# Altium footprint library EE209_PCBLibrary.PcbLib: 16 footprints
Each footprint in its own frame and in the unit in brackets; x right, y up, seen from the top. Pads: shape width x height; smd on the part's side, far side on the other; paste and mask are expansions set on the pad; w line width, h text height; cw(c..) or ccw(c..) is an arc to the next point about the centre after c.
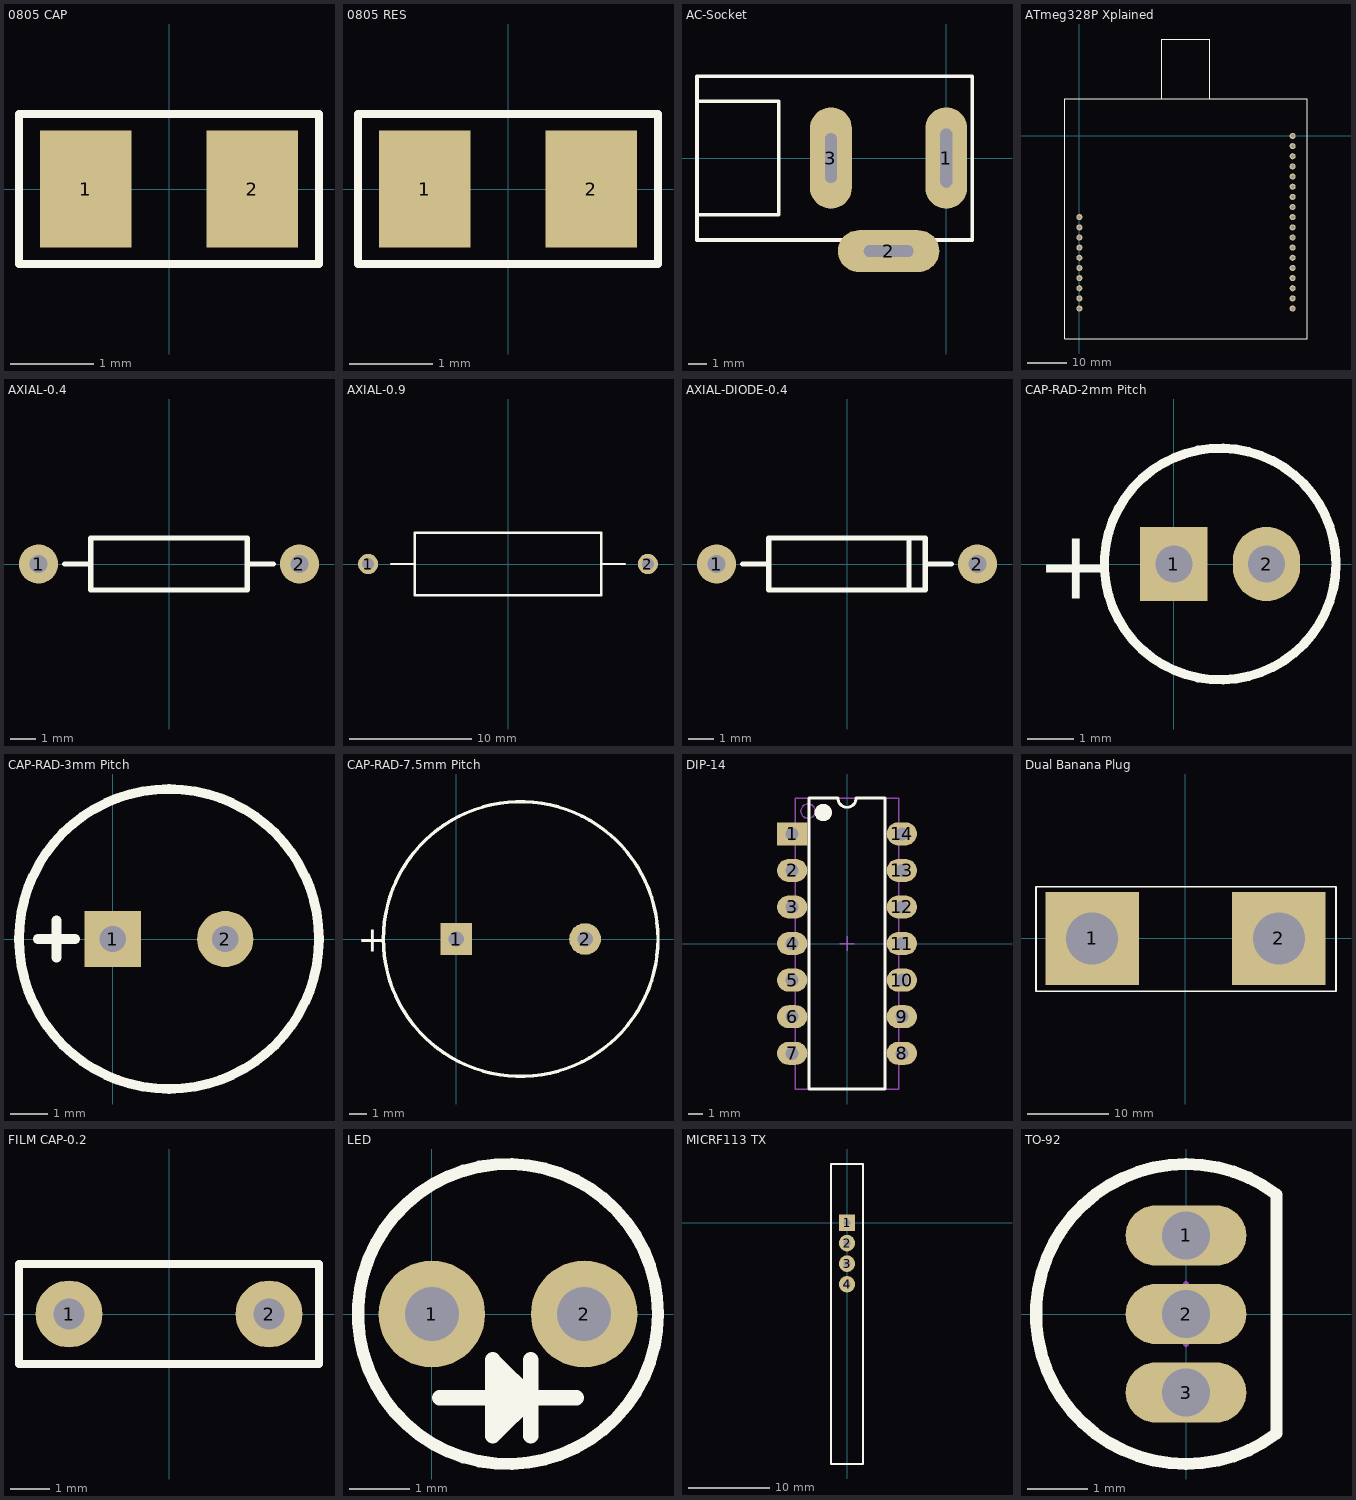
[diagram p0: the footprints below, top view; thin cyan lines are the x and y axes]

## 0805 CAP [mm] "http://www.digikey.co.nz/Web%20Export/Supplier%20Content/Vishay_8026/PDF/VishayBeyschlag_SolderPad.pdf?redirected=1 with dimension G modified by +0.25mm"
pads (2):
  rect 1.1x1.4 smd: 1(-1,0) 2(1,0)
Top Overlay:
  lines w0.1: -1.8,-0.9 -1.8,0.9 1.8,0.9 1.8,-0.9 -1.8,-0.9
3D body: height 0.6, standoff 0, extent -1.016,-0.635 1.016,0.635
3D body: height 0.61, standoff 0, extent -1.041,-0.66 -0.762,0.66
3D body: height 0.61, standoff 0, extent 0.762,-0.66 1.041,0.66

## 0805 RES [mm] "http://www.digikey.co.nz/Web%20Export/Supplier%20Content/Vishay_8026/PDF/VishayBeyschlag_SolderPad.pdf?redirected=1 with dimension G modified by +0.25mm"
pads (2):
  rect 1.1x1.4 smd: 1(-1,0) 2(1,0)
Top Overlay:
  lines w0.1: -1.8,-0.9 -1.8,0.9 1.8,0.9 1.8,-0.9 -1.8,-0.9
3D body: height 0.6, standoff 0, extent -1.016,-0.635 1.016,0.635
3D body: height 0.61, standoff 0, extent -1.041,-0.66 -0.762,0.66
3D body: height 0.61, standoff 0, extent 0.762,-0.66 1.041,0.66

## AC-Socket [mm]
pads (3):
  oval 2.25x5.45 hole 0.635 slot 3.175 at 90 deg: 1(0,0)
  oval 5.45x2.25 hole 0.635 slot 2.667 at 0 deg: 2(-3.1,-5)
  oval 2.25x5.45 hole 0.635 slot 2.667 at 90 deg: 3(-6.2,0)
Top Overlay:
  lines w0.2: -13.4,-3.05 -9,-3.05 -9,3.05 -13.4,3.05 ; -13.4,-4.4 -13.4,4.4 1.4,4.4 1.4,-4.4 -13.4,-4.4
  lines w0.5: -4.35,-4.25 -4.35,-5.25 -1.85,-5.25 -1.85,-4.25
Mechanical 1:
  lines w1: -6.2,-1.5 -6.2,1.7 ; -4.7,-5 -1.6,-5 ; 0,-1.6 0,1.6
3D body: height 10, standoff 0, extent -13.4,-4.4 1.4,4.4

## ATmeg328P Xplained [mil]
pads (28):
  round 60 hole 35: 9(0,-800) 10(0,-900) 11(0,-1000) 12(0,-1100) 13(0,-1200) 14(0,-1300) 15(0,-1400) 16(0,-1500) 17(0,-1600) 18(0,-1700) 19(2100,-1700) 20(2100,-1600) 21(2100,-1500) 22(2100,-1400) 23(2100,-1300) 24(2100,-1200) 25(2100,-1100) 26(2100,-1000) 27(2100,-900) 28(2100,-800) 29(2100,-700) 30(2100,-600) 31(2100,-500) 32(2100,-400) 33(2100,-300) 34(2100,-200) 35(2100,-100) 36(2100,0)
Top Overlay:
  lines w10: 810,365 810,955 1285,955 1285,367.26 ; -145,-2000 -145,365 2245,365 2245,-2000 -145,-2000
3D body: height 236.22, standoff 216.54, extent -145,-2000 2245,955

## AXIAL-0.4 [mil]
pads (2):
  round 60 hole 27.56: 1(-200,0) 2(200,0)
Top Overlay:
  lines w7.87: -160,0 -120,0 ; 120,0 160,0 ; -120,-40 -120,40 120,40 120,-40 -120,-40
3D body: height 80.68, standoff 1, extent -120,-39.92 120,39.92

## AXIAL-0.9 [mm]
pads (2):
  round 1.65 hole 1: 1(-11.43,0) 2(11.43,0)
Top Overlay:
  lines w0.2: -9.525,0 -7.62,0 ; 7.62,0 9.525,0 ; -7.62,-2.54 -7.62,2.54 7.62,2.54 7.62,-2.54 -7.62,-2.54
3D body: height 5.06, standoff 0, extent -7.535,-2.535 7.705,2.535

## AXIAL-DIODE-0.4 [mil]
pads (2):
  round 60 hole 27.56: 1(-200,0) 2(200,0)
Top Overlay:
  lines w7.87: -160,0 -120,0 ; 120,0 160,0 ; -120,-40 -120,40 120,40 120,-40 -120,-40
  lines w8: 95,-40 95,40
3D body: height 80.68, standoff 1, extent -120,-39.84 120,40
3D body: height 82.01, standoff -0.34, extent 47.24,-41.26 86.61,41.26

## CAP-RAD-2mm Pitch [mm] "Cap 5 X 6.8"
pads (2):
  rect 1.45x1.6 hole 0.8: 1(0,0)
  oval 1.45x1.6 hole 0.8: 2(2,0)
Top Overlay:
  circle w0.2: c1,0 r2.5
  text "+" at -2.975,-0.75 h1.5
3D body: height 6, standoff 0, extent -1.48,-2.495 3.5,2.495

## CAP-RAD-3mm Pitch [mm]
pads (2):
  rect 1.5x1.5 hole 0.7: 1(0,0)
  round 1.5 hole 0.7: 2(3,0)
Top Overlay:
  circle w0.254: c1.5,0 r4
  lines w0.254: -2,0 -1,0 ; -1.5,-0.5 -1.5,0.5
3D body: height 10, standoff 0, extent -2.468,-3.992 5.5,3.992

## CAP-RAD-7.5mm Pitch [mm]
pads (2):
  rect 1.85x1.85 hole 0.9: 1(0,0)
  round 1.85 hole 0.9: 2(7.5,0)
Top Overlay:
  circle w0.2: c3.75,0 r8
  text "+" at -5.725,-0.75 h1.5
3D body: height 10, standoff 0, extent -4.268,-7.968 11.668,8

## DIP-14 [mm] "DIP; 14 Leads; Row Spacing 7.62 mm; Pitch 2.54 mm"
height 5.08
pads (14):
  rect 2.1x1.6 hole 0.9: 1(-3.81,7.62)
  oval 2.1x1.6 hole 0.9: 2(-3.81,5.08) 3(-3.81,2.54) 4(-3.81,0) 5(-3.81,-2.54) 6(-3.81,-5.08) 7(-3.81,-7.62) 8(3.81,-7.62) 9(3.81,-5.08) 10(3.81,-2.54) 11(3.81,0) 12(3.81,2.54) 13(3.81,5.08) 14(3.81,7.62)
Top Overlay:
  circle w0.6: c-1.65,9.1 r0.3
  lines w0.2: -2.65,-10.1 2.65,-10.1 2.65,10.1 0.635,10.1 cw(c0,10.1) -0.635,10.1 -2.65,10.1 -2.65,-10.1
Mechanical 13:
  circle w0.1: c-2.7,9.2 r0.5
  lines w0.1: -3.6,-10.1 3.6,-10.1 3.6,10.1 -3.6,10.1 -3.6,-10.1
Mechanical 15:
  lines w0.1: -0.5,0 0.5,0 ; 0,-0.5 0,0.5
3D body: height 5.08, standoff 0, extent -3.6,-10.1 3.6,10.1
3D body: height 5.1, standoff 0, extent -3.096,8.701 -2.1,9.699

## Dual Banana Plug [mil] "Connector; 2 Position"
height 401.57
pads (2):
  rect 450x450 hole 250: 1(-450,0) 2(450,0)
Top Overlay:
  lines w7.87: -720,-255 -720,250 725,250 725,-255 -720,-255
3D body: height 216.54, standoff 0, extent -605.68,-156.86 -291.96,157.48
3D body: height 216.54, standoff 0, extent 292.58,-157.17 606.3,157.17
3D body: height 196.85, standoff 0, extent 215.65,-235.75 686.23,235.76
3D body: height 196.85, standoff 0, extent -684.35,-235.75 -213.77,235.76

## FILM CAP-0.2 [mm]
pads (2):
  round 1.7 hole 0.8: 1(-2.54,0) 2(2.54,0)
Top Overlay:
  lines w0.2: -3.81,-1.27 -3.81,1.27 3.81,1.27 3.81,-1.27 -3.81,-1.27
3D body: height 6, standoff 0.1, extent -3.81,-1.27 3.81,1.27

## LED [mil]
pads (2):
  round 70 hole 35.43: 1(0,0) 2(100,0)
Top Overlay:
  circle w8: c50,0 r98.42
  lines w10: 5,-55 95,-55 ; 49.69,-70.31 49.69,-40.31 50,-40 ; 65,-80 65,-30 ; 40,-80 65,-55 40,-30 40,-80

## MICRF113 TX [mil]
pads (4):
  rect 80x80 hole 32: 1(0,0)
  round 80 hole 32: 2(0,-100) 3(0,-200) 4(0,-300)
Top Overlay:
  lines w10: -78.74,-1175 -78.74,285 78.74,285 78.74,-1175 -78.74,-1175
3D body: height 787.4, standoff 0, extent -78.74,-1181.1 78.74,285

## TO-92 [mm] "TO, Flat Index; 3 In-Line, Axial Leads; Body Dia. 4.5mm; Leads 0.51 x 0.48 mm (max)"
height 6.86
pads (3):
  oval 2x1 hole 0.8: 1(0,1.3) 2(0,0) 3(0,-1.3)
Top Overlay:
  lines w0.2: 1.5,-1.98 cw(c0,0) 1.5,1.98 1.5,-1.98
Mechanical 13:
  lines w0.1: 1.5,-1.98 cw(c0,0) 1.5,1.98 1.5,-1.98
Mechanical 15:
  lines w0.1: -0.5,0 0.5,0 ; 0,-0.5 0,0.5
3D body: height 6.86, standoff 2.2, extent -2.497,-2.497 1.501,2.497